# EAGLE library part TDA8567Q (library Audio-Power-amlifier V.2.0)
The TDA8567Q is an integrated class-B output amplifier in a 23-lead Single-In-Line (SIL) plastic power package. It contains four amplifiers in BTL configuration, each with a gain of 26 dB. The output power is 4 ´ 25 W in a 4 W load.
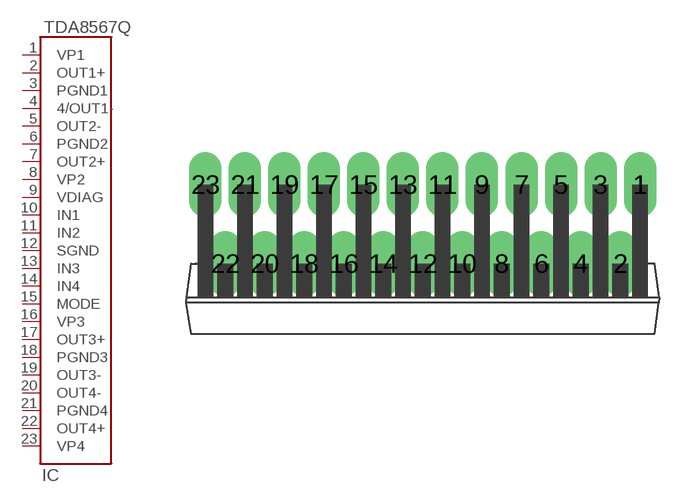
[diagram p209: symbol with the pads of SOT411-1; footprint SOT411-1]

Designator prefix IC

## TDA8567Q  [SOT411-1]
1  VP1  pwr
2  OUT1+  out
3  PGND1  pwr
4  4/OUT1-  out
5  OUT2-  out
6  PGND2  pwr
7  OUT2+  out
8  VP2  pwr
9  VDIAG  out
10  IN1  in
11  IN2  in
12  SGND  pwr
13  IN3  in
14  IN4  in
15  MODE  in
16  VP3  out
17  OUT3+  out
18  PGND3  pwr
19  OUT3-  out
20  OUT4-  out
21  PGND4  out
22  OUT4+  out
23  VP4  pwr

## Footprint SOT411-1 (pad centres in mm)
drill 1.4 long: 1 13.97,5.08; 2 12.7,0; 3 11.43,5.08; 4 10.16,0; 5 8.89,5.08; 6 7.62,0; 7 6.35,5.08; 8 5.08,0; 9 3.81,5.08; 10 2.54,0; 11 1.27,5.08; 12 0,0; 13 -1.27,5.08; 14 -2.54,0; 15 -3.81,5.08; 16 -5.08,0; 17 -6.35,5.08; 18 -7.62,0; 19 -8.89,5.08; 20 -10.16,0; 21 -11.43,5.08; 22 -12.7,0; 23 -13.97,5.08